# EAGLE library part IC_TI_TPA3111D1 (library Brenneman)
TI TPA3111D1 amp
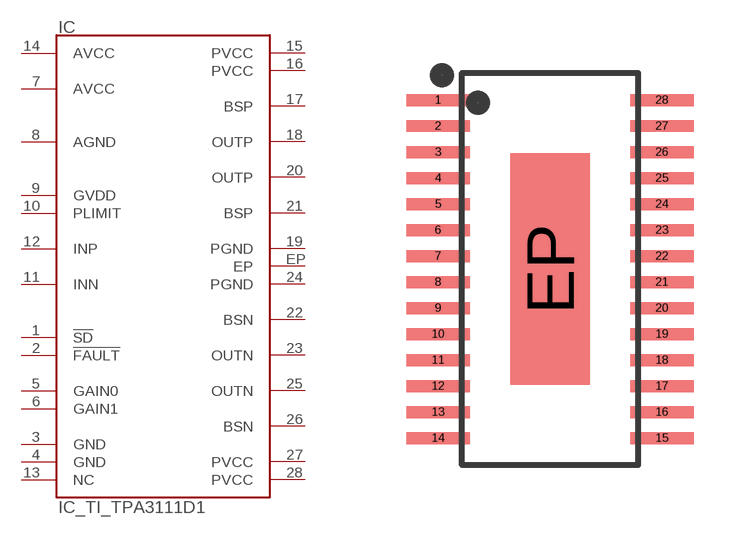
[diagram p0: symbol with the pads of TSSOP28_EP; footprint TSSOP28_EP]

Designator prefix IC

## IC_TI_TPA3111D1PWP (MANUFACTURER: TI; MFR_PN: TPA3111D1PWP)  [TSSOP28_EP]
1  !SD  in
2  !FAULT  out
3  GND  in
4  GND  in
5  GAIN0  in
6  GAIN1  in
7  AVCC  in
8  AGND  in
9  GVDD  out
10  PLIMIT  in
11  INN  in
12  INP  in
13  NC  nc
14  AVCC  in
15  PVCC  in
16  PVCC  in
17  BSP  in
18  OUTP  in
19  PGND  in
20  OUTP  in
21  BSP  in
22  BSN  in
23  OUTN  in
24  PGND  in
25  OUTN  in
26  BSN  in
27  PVCC  in
28  PVCC  in
EP  EP  in

## Footprint TSSOP28_EP (pad centres in mm)
Power TSSOP 28-pin with exposed pad TI PWP pkg.
smd 1.59 x 0.3: 1 -2.8,4.225; 2 -2.8,3.575; 3 -2.8,2.925; 4 -2.8,2.275; 5 -2.8,1.625; 6 -2.8,0.975; 7 -2.8,0.325; 8 -2.8,-0.325; 9 -2.8,-0.975; 10 -2.8,-1.625; 11 -2.8,-2.275; 12 -2.8,-2.925; 13 -2.8,-3.575; 14 -2.8,-4.225; 15 2.8,-4.225; 16 2.8,-3.575; 17 2.8,-2.925; 18 2.8,-2.275; 19 2.8,-1.625; 20 2.8,-0.975; 21 2.8,-0.325; 22 2.8,0.325; 23 2.8,0.975; 24 2.8,1.625; 25 2.8,2.275; 26 2.8,2.925; 27 2.8,3.575; 28 2.8,4.225
smd 1.99 x 5.79: EP 0,0